# Altium footprint library PCBLib.PcbLib: 21 footprints (part 2 of 2)
Each footprint in its own frame and in the unit in brackets; x right, y up, seen from the top. Pads: shape width x height; smd on the part's side, far side on the other; paste and mask are expansions set on the pad; w line width, h text height; cw(c..) or ccw(c..) is an arc to the next point about the centre after c.
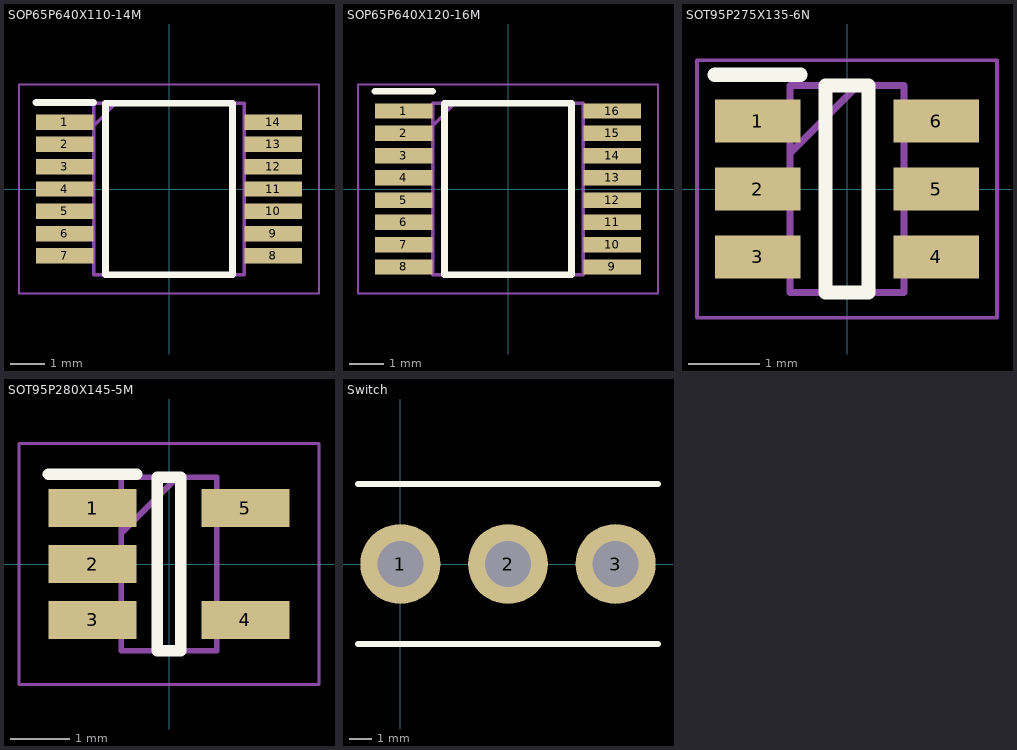
[diagram p1: the footprints below, top view; thin cyan lines are the x and y axes]

## SOP65P640X110-14M [mm]
pads (14):
  rect 1.675x0.45 smd: 1(-3.038,1.95) 2(-3.038,1.3) 3(-3.038,0.65) 4(-3.038,0) 5(-3.038,-0.65) 6(-3.038,-1.3) 7(-3.038,-1.95) 8(3.038,-1.95) 9(3.038,-1.3) 10(3.038,-0.65) 11(3.038,0) 12(3.038,0.65) 13(3.038,1.3) 14(3.038,1.95)
Top Overlay:
  lines w0.2: -3.875,2.525 -2.2,2.525 ; -1.85,-2.5 1.85,-2.5 1.85,2.5 -1.85,2.5 -1.85,-2.5
Mechanical 15:
  lines w0.1: -2.2,1.85 -1.55,2.5 ; -2.2,-2.5 2.2,-2.5 2.2,2.5 -2.2,2.5 -2.2,-2.5
Mechanical 20:
  lines w0.05: -4.375,-3.05 4.375,-3.05 4.375,3.05 -4.375,3.05 -4.375,-3.05

## SOP65P640X120-16M [mm]
pads (16):
  rect 1.675x0.45 smd: 1(-3.038,2.275) 2(-3.038,1.625) 3(-3.038,0.975) 4(-3.038,0.325) 5(-3.038,-0.325) 6(-3.038,-0.975) 7(-3.038,-1.625) 8(-3.038,-2.275) 9(3.038,-2.275) 10(3.038,-1.625) 11(3.038,-0.975) 12(3.038,-0.325) 13(3.038,0.325) 14(3.038,0.975) 15(3.038,1.625) 16(3.038,2.275)
Top Overlay:
  lines w0.2: -3.875,2.85 -2.2,2.85 ; -1.85,-2.5 -1.85,2.5 1.85,2.5 1.85,-2.5 -1.85,-2.5
Mechanical 15:
  lines w0.1: -2.2,1.85 -1.55,2.5 ; -2.2,-2.5 -2.2,2.5 2.2,2.5 2.2,-2.5 -2.2,-2.5
Mechanical 20:
  lines w0.05: -4.375,-3.05 -4.375,3.05 4.375,3.05 4.375,-3.05 -4.375,-3.05

## SOT95P275X135-6N [mm]
pads (6):
  rect 1.2x0.6 smd: 1(-1.25,0.95) 2(-1.25,0) 3(-1.25,-0.95) 4(1.25,-0.95) 5(1.25,0) 6(1.25,0.95)
Top Overlay:
  lines w0.2: -1.85,1.6 -0.65,1.6 ; -0.3,-1.45 -0.3,1.45 0.3,1.45 0.3,-1.45 -0.3,-1.45
Mechanical 15:
  lines w0.1: -0.8,0.5 0.15,1.45 ; -0.8,-1.45 -0.8,1.45 0.8,1.45 0.8,-1.45 -0.8,-1.45
Mechanical 20:
  lines w0.05: -2.1,-1.8 -2.1,1.8 2.1,1.8 2.1,-1.8 -2.1,-1.8

## SOT95P280X145-5M [mm]
pads (5):
  rect 1.5x0.65 smd: 1(-1.3,0.95) 2(-1.3,0) 3(-1.3,-0.95) 4(1.3,-0.95) 5(1.3,0.95)
Top Overlay:
  lines w0.2: -2.05,1.525 -0.55,1.525 ; -0.2,-1.475 -0.2,1.475 0.2,1.475 0.2,-1.475 -0.2,-1.475
Mechanical 15:
  lines w0.1: -0.812,0.525 0.138,1.475 ; -0.812,-1.475 -0.812,1.475 0.812,1.475 0.812,-1.475 -0.812,-1.475
Mechanical 20:
  lines w0.05: -2.55,-2.05 -2.55,2.05 2.55,2.05 2.55,-2.05 -2.55,-2.05

## Switch [mm]
pads (3):
  round 3.5 hole 2: 1(0,0) 2(4.7,0) 3(9.4,0)
Top Overlay:
  lines w0.254: -1.85,-3.5 11.25,-3.5 ; -1.85,3.5 11.25,3.5